# EAGLE library part 218-4LPST (library glasses)
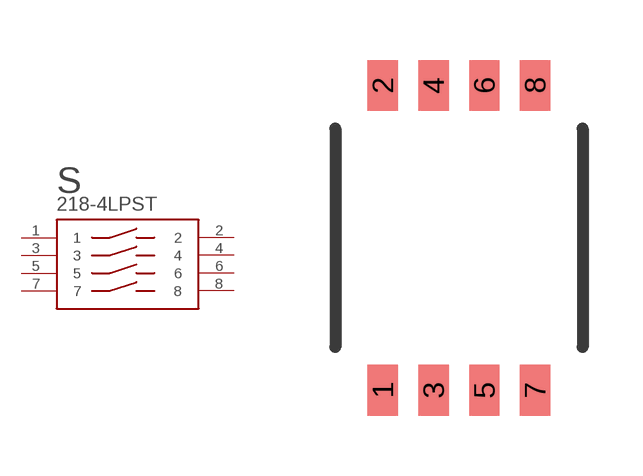
[diagram p13: symbol with the pads of 218-4LPST; footprint 218-4LPST]

Designator prefix S

## 218-4LPST  [218-4LPST]
1  1
2  2
3  3
4  4
5  5
6  6
7  7
8  8

## Footprint 218-4LPST (pad centres in mm)
smd 0.76 x 1.27: 1 -1.905,-3.81; 2 -1.905,3.81; 3 -0.635,-3.81; 4 -0.635,3.81; 5 0.635,-3.81; 6 0.635,3.81; 7 1.905,-3.81; 8 1.905,3.81